# Altium footprint library Relay.PcbLib: 20 footprints (part 2 of 2)
Each footprint in its own frame and in the unit in brackets; x right, y up, seen from the top. Pads: shape width x height; smd on the part's side, far side on the other; paste and mask are expansions set on the pad; w line width, h text height; cw(c..) or ccw(c..) is an arc to the next point about the centre after c.
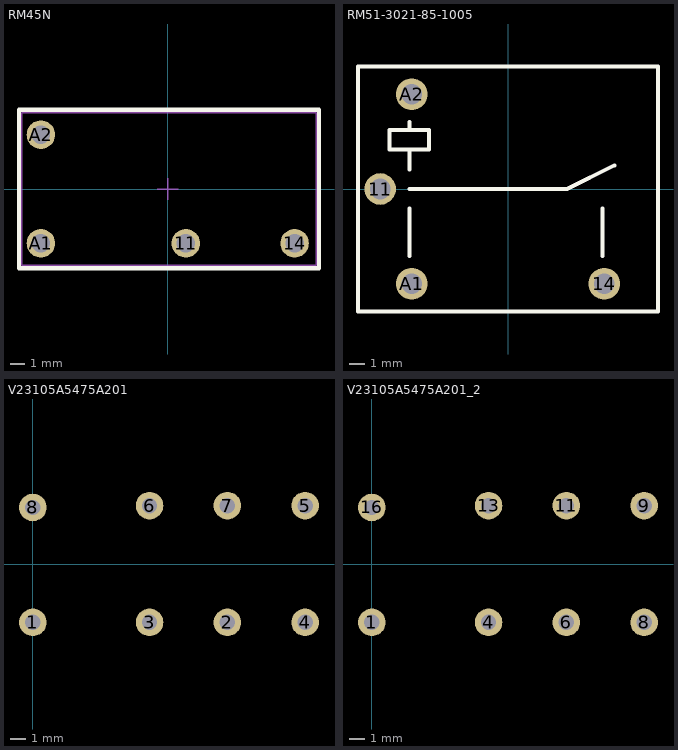
[diagram p1: the footprints below, top view; thin cyan lines are the x and y axes]

## RM45N [mm]
height 15.6
pads (4):
  round 2 hole 1.3: 11(1.27,-3.81) 14(8.89,-3.81) A1(-8.89,-3.81) A2(-8.89,3.81)
Top Overlay:
  lines w0.3: -10.425,-5.55 -10.425,5.55 10.6,5.55 10.6,-5.55 -10.425,-5.55
Mechanical 15:
  lines w0.1: -0.75,0 0.75,0 ; 0,-0.75 0,0.75 ; -10.225,-5.35 -10.225,5.35 10.4,5.35 10.4,-5.35 -10.225,-5.35
3D body: height 15.6, standoff 0, extent -10.16,-5.3 10.34,5.3

## RM51-3021-85-1005 [mm] "Relay NO"
height 16
pads (4):
  round 2 hole 1.3: 11(-8.1,0) 14(6.1,-6) A1(-6.1,-6) A2(-6.1,6)
Top Overlay:
  lines w0.254: -6.25,-4.25 -6.25,-1.25 ; -6.25,0 0,0 3.75,0 6.75,1.5 ; -6.25,1.25 -6.25,2.5 ; -6.25,3.75 -6.25,4.25 ; 6,-4.25 6,-4 6,-1.25 ; -9.5,-7.75 9.5,-7.75 9.5,7.75 -9.5,7.75 -9.5,-7.75 ; -7.5,2.5 -7.5,3.75 -5,3.75 -5,2.5 -7.5,2.5
3D body: height 16, standoff -1, extent -9.475,-7.775 9.525,7.725

## V23105A5475A201 [mm] "V23105A5475A201"
pads (8):
  round 1.8 hole 1: 1(0,-3.81) 2(12.7,-3.81) 3(7.62,-3.81) 4(17.78,-3.81) 5(17.78,3.81) 6(7.62,3.81) 7(12.7,3.81) 8(0,3.69)
3D body: height 11, standoff -3.2, extent -1.2,-5 19,5

## V23105A5475A201_2 [mm] "V2"
pads (8):
  round 1.8 hole 1: 1(0,-3.81) 4(7.62,-3.81) 6(12.7,-3.81) 8(17.78,-3.81) 9(17.78,3.81) 11(12.7,3.81) 13(7.62,3.81) 16(0,3.69)
3D body: height 11, standoff -3.2, extent -1.2,-5 19,5